# Altium footprint library layout Relais.PcbLib: 2 footprints
Each footprint in its own frame and in the unit in brackets; x right, y up, seen from the top. Pads: shape width x height; smd on the part's side, far side on the other; paste and mask are expansions set on the pad; w line width, h text height; cw(c..) or ccw(c..) is an arc to the next point about the centre after c.
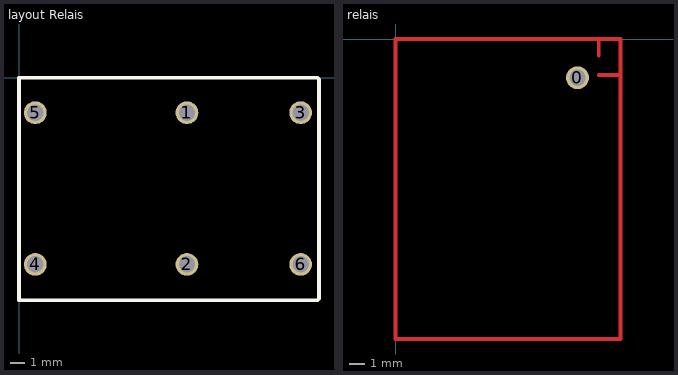
[diagram p0: the footprints below, top view; thin cyan lines are the x and y axes]

## layout Relais [mm]
pads (6):
  round 1.524 hole 1.09: 1(11.25,-2.34) 2(11.25,-12.5) 3(18.87,-2.34) 4(1.09,-12.5) 5(1.09,-2.34) 6(18.87,-12.5)
Top Overlay:
  lines w0.254: 20,-14.9 0,-14.9 0,-14 0,0 20,0 20.1,-0.1 20.1,-13.9 20.1,-14.8

## relais [mil]
pads (1):
  round 60 hole 42.91: 0(477.52,-101.6)
Top Layer:
  lines w10: 533.4,-94.09 590.44,-94.09 ; 533.4,-42.91 533.4,0 ; 0,-787.4 0,0 590.55,0 590.55,-787.4 0,-787.4